# Altium integrated library Analog Devices Data Converters Analog-to-Digital Converters.IntLib: 2400 symbols (part 57 of 338)
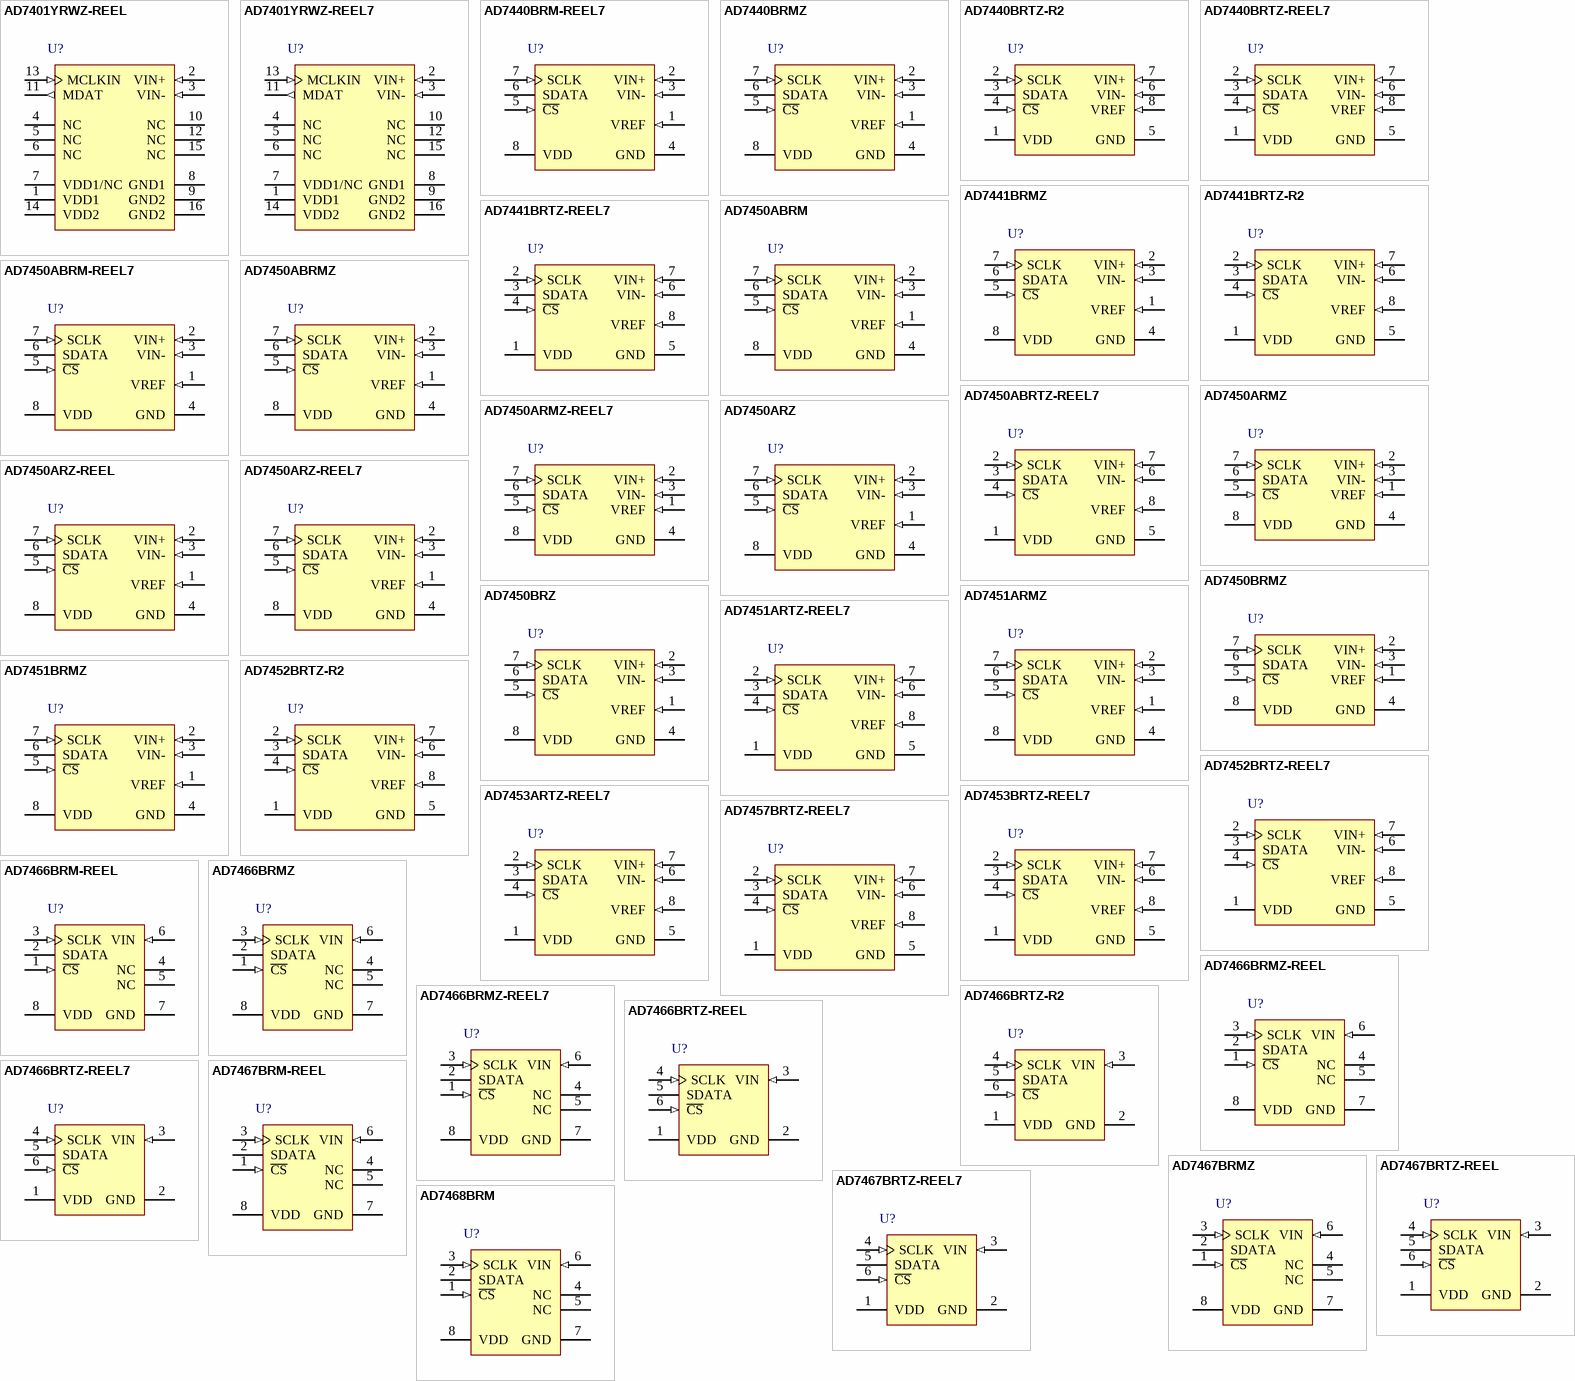
[diagram p287: symbols AD7401YRWZ-REEL to AD7468BRM]

## AD7440BRTZ-REEL7
designator U?
Single 10-Bit Analog-to-Digital Converter with Serial, SPI Interface, 1MSPS, -40 to +85 degC, RJ-8, Pb-Free, Reel; Part Number: AD7440; Manufacturer: Analog Devices; Resolution (Bits): 10; Channels: 1; Throughput Rate (SPS): 1M; Interface: Ser, SPI; DatasheetVersion: Rev.C; PackageVersion: 121608-A; PackageReference: RJ-8; PackageDescription: 8-Lead Thin Small Outline Transistor Package [SOT-23]; RoHS: Y; Packing: Reel; Mounting Technology: Surface Mount; Code_JEDEC: MO-178-BA; ComponentLink1Description: Manufacturer URL; ComponentLink1URL: http://www.analog.com/en/index.html; ComponentLink2Description: Datasheet; ComponentLink2URL: http://www.analog.com/static/imported-files/data_sheets/AD7440_7450A.pdf; ComponentLink3Description: Package Specification; ComponentLink3URL: http://www.analog.com/static/imported-files/packages/PKG_PDF/SOT-23(RJ)/RJ_8.pdf; ComponentLink4Description: Product URL; ComponentLink4URL: http://www.analog.com/en/analog-to-digital-converters/ad-converters/ad7440/products/product.html
footprint RJ-8_N (SOP, 8-Leads, Body 2.9x1.6mm, Pitch 0.65mm, IPC Medium Density)
footprint RJ-8_L (SOP, 8-Leads, Body 2.9x1.6mm, Pitch 0.65mm, IPC High Density)
footprint RJ-8_M (SOP, 8-Leads, Body 2.9x1.6mm, Pitch 0.65mm, IPC Low Density)
pins: 1 VDD (power) "Power Supply Input. VDD is 3 V (+20%/-10%) or 5 V (+/-5%). This supply should be decoupled to GND with a 0.1 uF capacitor and a 10 uF tantalum capacitor in parallel.", 2 SCLK (in) "Serial Clock. Logic input. SCLK provides the serial clock for accessing data from the part. This clock input is also used as the clock source for the conversion process.", 3 SDATA (hiz) "Serial Data. Logic output. The conversion result from the AD7440/AD7450A is provided on this output as a serial data stream. The bits are clocked out on the falling edge of the SCLK input. The data stream of the AD7450A (See Datasheet)", 4 ~{CS} (in) "Chip Select. Active low logic input. This input provides the dual function of initiating a conversion on the AD7440/AD7450A and framing the serial data transfer.", 5 GND (power) "Analog Ground. Ground reference point for all circuitry on the AD7440/AD7450A. All analog input signals and any external reference signal should be referred to this GND voltage.", 6 VIN- (in) "Negative Terminal for Differential Analog Input.", 7 VIN+ (in) "Positive Terminal for Differential Analog Input.", 8 VREF (in) "Reference Input for the AD7440/AD7450A. An external reference must be applied to this input. For a 5 V power supply, the reference is 2.5 V (+/-1%) for specified performance. For a 3 V power supply, the reference is 2 V (See Datasheet)"

## AD7441BRMZ
designator U?
Single 10-Bit Analog-to-Digital Converter with Serial, SPI Interface, 1MSPS, -40 to +85 degC, RM-8, Pb-Free, Tube; Part Number: AD7441; Manufacturer: Analog Devices; Resolution (Bits): 10; Channels: 1; Throughput Rate (SPS): 1M; Interface: Ser, SPI; DatasheetVersion: Rev.D; PackageVersion: Aug-2005; PackageReference: RM-8; PackageDescription: 8-Lead Mini Small Outline Package [MSOP]; RoHS: Y; Packing: Tube; Mounting Technology: Surface Mount; Code_JEDEC: MO-187-AA; ComponentLink1Description: Manufacturer URL; ComponentLink1URL: http://www.analog.com/en/index.html; ComponentLink2Description: Datasheet; ComponentLink2URL: http://www.analog.com/static/imported-files/data_sheets/AD7441_7451.pdf; ComponentLink3Description: Package Specification; ComponentLink3URL: http://www.analog.com/static/imported-files/packages/PKG_PDF/MSOP%28RM%29/RM_8.pdf; ComponentLink4Description: Product URL; ComponentLink4URL: http://www.analog.com/en/analog-to-digital-converters/ad-converters/ad7441/products/product.html
footprint RM-8_N (TSOP, 8-Leads, Body 3x3mm, Pitch 0.65mm, IPC Medium Density)
footprint RM-8_L (TSOP, 8-Leads, Body 3x3mm, Pitch 0.65mm, IPC High Density)
footprint RM-8_M (TSOP, 8-Leads, Body 3x3mm, Pitch 0.65mm, IPC Low Density)
pins: 1 VREF (in) "Reference Input for the AD7441/AD7451. An external reference in the range of 100 mV to VDD must be applied to this input. The specified reference input is 2.5 V. This pin is decoupled to GND with a capacitor of at least 0.1 (See Datasheet)", 2 VIN+ (in) "Noninverting Analog Input.", 3 VIN- (in) "Inverting Input. This pin sets the ground reference point for the VIN+ input. Connect to ground or to a dc offset to provide a pseudo ground.", 4 GND (power) "Analog Ground. Ground reference point for all circuitry on the AD7441/AD7451. All analog input signals and any external reference signal are referred to this GND voltage.", 5 ~{CS} (in) "Chip Select. Active low logic input. This input provides the dual function of initiating a conversion on the AD7441/AD7451 and framing the serial data transfer.", 6 SDATA (hiz) "Serial Data, Logic Output. The conversion result from the AD7441/AD7451 is provided on this output as a serial data stream. The bits are clocked out on the falling edge of the SCLK input. The data stream of the AD7451 (See Datasheet)", 7 SCLK (in) "Serial Clock, Logic Input. SCLK provides the serial clock for accessing data from the part. This clock input is also used as the clock source for the conversion process.", 8 VDD (power) "Power Supply Input. VDD is 2.7 V to 5.25 V. This supply is decoupled to GND with a 0.1 uF capacitor and a 10 uF tantalum capacitor."

## AD7441BRTZ-R2
designator U?
Single 10-Bit Analog-to-Digital Converter with Serial, SPI Interface, 1MSPS, -40 to +85 degC, RJ-8, Pb-Free, Reel; Part Number: AD7441; Manufacturer: Analog Devices; Resolution (Bits): 10; Channels: 1; Throughput Rate (SPS): 1M; Interface: Ser, SPI; DatasheetVersion: Rev.D; PackageVersion: 121608-A; PackageReference: RJ-8; PackageDescription: 8-Lead Thin Small Outline Transistor Package [SOT-23]; RoHS: Y; Packing: Reel; Mounting Technology: Surface Mount; Code_JEDEC: MO-178-BA; ComponentLink1Description: Manufacturer URL; ComponentLink1URL: http://www.analog.com/en/index.html; ComponentLink2Description: Datasheet; ComponentLink2URL: http://www.analog.com/static/imported-files/data_sheets/AD7441_7451.pdf; ComponentLink3Description: Package Specification; ComponentLink3URL: http://www.analog.com/static/imported-files/packages/PKG_PDF/SOT-23(RJ)/RJ_8.pdf; ComponentLink4Description: Product URL; ComponentLink4URL: http://www.analog.com/en/analog-to-digital-converters/ad-converters/ad7441/products/product.html
footprint RJ-8_N (SOP, 8-Leads, Body 2.9x1.6mm, Pitch 0.65mm, IPC Medium Density)
footprint RJ-8_L (SOP, 8-Leads, Body 2.9x1.6mm, Pitch 0.65mm, IPC High Density)
footprint RJ-8_M (SOP, 8-Leads, Body 2.9x1.6mm, Pitch 0.65mm, IPC Low Density)
pins: 1 VDD (power) "Power Supply Input. VDD is 2.7 V to 5.25 V. This supply is decoupled to GND with a 0.1 uF capacitor and a 10 uF tantalum capacitor.", 2 SCLK (in) "Serial Clock, Logic Input. SCLK provides the serial clock for accessing data from the part. This clock input is also used as the clock source for the conversion process.", 3 SDATA (hiz) "Serial Data, Logic Output. The conversion result from the AD7441/AD7451 is provided on this output as a serial data stream. The bits are clocked out on the falling edge of the SCLK input. The data stream of the AD7451 (See Datasheet)", 4 ~{CS} (in) "Chip Select. Active low logic input. This input provides the dual function of initiating a conversion on the AD7441/AD7451 and framing the serial data transfer.", 5 GND (power) "Analog Ground. Ground reference point for all circuitry on the AD7441/AD7451. All analog input signals and any external reference signal are referred to this GND voltage.", 6 VIN- (in) "Inverting Input. This pin sets the ground reference point for the VIN+ input. Connect to ground or to a dc offset to provide a pseudo ground.", 7 VIN+ (in) "Noninverting Analog Input.", 8 VREF (in) "Reference Input for the AD7441/AD7451. An external reference in the range of 100 mV to VDD must be applied to this input. The specified reference input is 2.5 V. This pin is decoupled to GND with a capacitor of at least 0.1 (See Datasheet)"

## AD7441BRTZ-REEL7
designator U?
Single 10-Bit Analog-to-Digital Converter with Serial, SPI Interface, 1MSPS, -40 to +85 degC, RJ-8, Pb-Free, Reel; Part Number: AD7441; Manufacturer: Analog Devices; Resolution (Bits): 10; Channels: 1; Throughput Rate (SPS): 1M; Interface: Ser, SPI; DatasheetVersion: Rev.D; PackageVersion: 121608-A; PackageReference: RJ-8; PackageDescription: 8-Lead Thin Small Outline Transistor Package [SOT-23]; RoHS: Y; Packing: Reel; Mounting Technology: Surface Mount; Code_JEDEC: MO-178-BA; ComponentLink1Description: Manufacturer URL; ComponentLink1URL: http://www.analog.com/en/index.html; ComponentLink2Description: Datasheet; ComponentLink2URL: http://www.analog.com/static/imported-files/data_sheets/AD7441_7451.pdf; ComponentLink3Description: Package Specification; ComponentLink3URL: http://www.analog.com/static/imported-files/packages/PKG_PDF/SOT-23(RJ)/RJ_8.pdf; ComponentLink4Description: Product URL; ComponentLink4URL: http://www.analog.com/en/analog-to-digital-converters/ad-converters/ad7441/products/product.html
footprint RJ-8_N (SOP, 8-Leads, Body 2.9x1.6mm, Pitch 0.65mm, IPC Medium Density)
footprint RJ-8_L (SOP, 8-Leads, Body 2.9x1.6mm, Pitch 0.65mm, IPC High Density)
footprint RJ-8_M (SOP, 8-Leads, Body 2.9x1.6mm, Pitch 0.65mm, IPC Low Density)
pins: 1 VDD (power) "Power Supply Input. VDD is 2.7 V to 5.25 V. This supply is decoupled to GND with a 0.1 uF capacitor and a 10 uF tantalum capacitor.", 2 SCLK (in) "Serial Clock, Logic Input. SCLK provides the serial clock for accessing data from the part. This clock input is also used as the clock source for the conversion process.", 3 SDATA (hiz) "Serial Data, Logic Output. The conversion result from the AD7441/AD7451 is provided on this output as a serial data stream. The bits are clocked out on the falling edge of the SCLK input. The data stream of the AD7451 (See Datasheet)", 4 ~{CS} (in) "Chip Select. Active low logic input. This input provides the dual function of initiating a conversion on the AD7441/AD7451 and framing the serial data transfer.", 5 GND (power) "Analog Ground. Ground reference point for all circuitry on the AD7441/AD7451. All analog input signals and any external reference signal are referred to this GND voltage.", 6 VIN- (in) "Inverting Input. This pin sets the ground reference point for the VIN+ input. Connect to ground or to a dc offset to provide a pseudo ground.", 7 VIN+ (in) "Noninverting Analog Input.", 8 VREF (in) "Reference Input for the AD7441/AD7451. An external reference in the range of 100 mV to VDD must be applied to this input. The specified reference input is 2.5 V. This pin is decoupled to GND with a capacitor of at least 0.1 (See Datasheet)"

## AD7450ABRM
designator U?
Single 12-Bit Analog-to-Digital Converter with Serial Interface, 1MSPS, -40 to +85 degC, RM-8, Tube; Part Number: AD7450A; Manufacturer: Analog Devices; Resolution (Bits): 12; Channels: 1; Throughput Rate (SPS): 1M; Interface: Ser; DatasheetVersion: Rev.C; PackageVersion: Aug-2005; PackageReference: RM-8; PackageDescription: 8-Lead Mini Small Outline Package [MSOP]; RoHS: N; Packing: Tube; Mounting Technology: Surface Mount; Code_JEDEC: MO-187-AA; ComponentLink1Description: Manufacturer URL; ComponentLink1URL: http://www.analog.com/en/index.html; ComponentLink2Description: Datasheet; ComponentLink2URL: http://www.analog.com/static/imported-files/data_sheets/AD7440_7450A.pdf; ComponentLink3Description: Package Specification; ComponentLink3URL: http://www.analog.com/static/imported-files/packages/PKG_PDF/MSOP%28RM%29/RM_8.pdf; ComponentLink4Description: Product URL; ComponentLink4URL: http://www.analog.com/en/analog-to-digital-converters/ad-converters/ad7450a/products/product.html
footprint RM-8_N (TSOP, 8-Leads, Body 3x3mm, Pitch 0.65mm, IPC Medium Density)
footprint RM-8_L (TSOP, 8-Leads, Body 3x3mm, Pitch 0.65mm, IPC High Density)
footprint RM-8_M (TSOP, 8-Leads, Body 3x3mm, Pitch 0.65mm, IPC Low Density)
pins: 1 VREF (in) "Reference Input for the AD7440/AD7450A. An external reference must be applied to this input. For a 5 V power supply, the reference is 2.5 V (+/-1%) for specified performance. For a 3 V power supply, the reference is 2 V (See Datasheet)", 2 VIN+ (in) "Positive Terminal for Differential Analog Input.", 3 VIN- (in) "Negative Terminal for Differential Analog Input.", 4 GND (power) "Analog Ground. Ground reference point for all circuitry on the AD7440/AD7450A. All analog input signals and any external reference signal should be referred to this GND voltage.", 5 ~{CS} (in) "Chip Select. Active low logic input. This input provides the dual function of initiating a conversion on the AD7440/AD7450A and framing the serial data transfer.", 6 SDATA (hiz) "Serial Data. Logic output. The conversion result from the AD7440/AD7450A is provided on this output as a serial data stream. The bits are clocked out on the falling edge of the SCLK input. The data stream of the AD7450A (See Datasheet)", 7 SCLK (in) "Serial Clock. Logic input. SCLK provides the serial clock for accessing data from the part. This clock input is also used as the clock source for the conversion process.", 8 VDD (power) "Power Supply Input. VDD is 3 V (+20%/-10%) or 5 V (+/-5%). This supply should be decoupled to GND with a 0.1 uF capacitor and a 10 uF tantalum capacitor in parallel."

## AD7450ABRM-REEL7
designator U?
Single 12-Bit Analog-to-Digital Converter with Serial Interface, 1MSPS, -40 to +85 degC, RM-8, Reel; Part Number: AD7450A; Manufacturer: Analog Devices; Resolution (Bits): 12; Channels: 1; Throughput Rate (SPS): 1M; Interface: Ser; DatasheetVersion: Rev.C; PackageVersion: Aug-2005; PackageReference: RM-8; PackageDescription: 8-Lead Mini Small Outline Package [MSOP]; RoHS: N; Packing: Reel; Mounting Technology: Surface Mount; Code_JEDEC: MO-187-AA; ComponentLink1Description: Manufacturer URL; ComponentLink1URL: http://www.analog.com/en/index.html; ComponentLink2Description: Datasheet; ComponentLink2URL: http://www.analog.com/static/imported-files/data_sheets/AD7440_7450A.pdf; ComponentLink3Description: Package Specification; ComponentLink3URL: http://www.analog.com/static/imported-files/packages/PKG_PDF/MSOP%28RM%29/RM_8.pdf; ComponentLink4Description: Product URL; ComponentLink4URL: http://www.analog.com/en/analog-to-digital-converters/ad-converters/ad7450a/products/product.html
footprint RM-8_N (TSOP, 8-Leads, Body 3x3mm, Pitch 0.65mm, IPC Medium Density)
footprint RM-8_L (TSOP, 8-Leads, Body 3x3mm, Pitch 0.65mm, IPC High Density)
footprint RM-8_M (TSOP, 8-Leads, Body 3x3mm, Pitch 0.65mm, IPC Low Density)
pins: 1 VREF (in) "Reference Input for the AD7440/AD7450A. An external reference must be applied to this input. For a 5 V power supply, the reference is 2.5 V (+/-1%) for specified performance. For a 3 V power supply, the reference is 2 V (See Datasheet)", 2 VIN+ (in) "Positive Terminal for Differential Analog Input.", 3 VIN- (in) "Negative Terminal for Differential Analog Input.", 4 GND (power) "Analog Ground. Ground reference point for all circuitry on the AD7440/AD7450A. All analog input signals and any external reference signal should be referred to this GND voltage.", 5 ~{CS} (in) "Chip Select. Active low logic input. This input provides the dual function of initiating a conversion on the AD7440/AD7450A and framing the serial data transfer.", 6 SDATA (hiz) "Serial Data. Logic output. The conversion result from the AD7440/AD7450A is provided on this output as a serial data stream. The bits are clocked out on the falling edge of the SCLK input. The data stream of the AD7450A (See Datasheet)", 7 SCLK (in) "Serial Clock. Logic input. SCLK provides the serial clock for accessing data from the part. This clock input is also used as the clock source for the conversion process.", 8 VDD (power) "Power Supply Input. VDD is 3 V (+20%/-10%) or 5 V (+/-5%). This supply should be decoupled to GND with a 0.1 uF capacitor and a 10 uF tantalum capacitor in parallel."